# Altium footprint library l0603_0.95mm.PcbLib: 1 footprints
Each footprint in its own frame and in the unit in brackets; x right, y up, seen from the top. Pads: shape width x height; smd on the part's side, far side on the other; paste and mask are expansions set on the pad; w line width, h text height; cw(c..) or ccw(c..) is an arc to the next point about the centre after c.
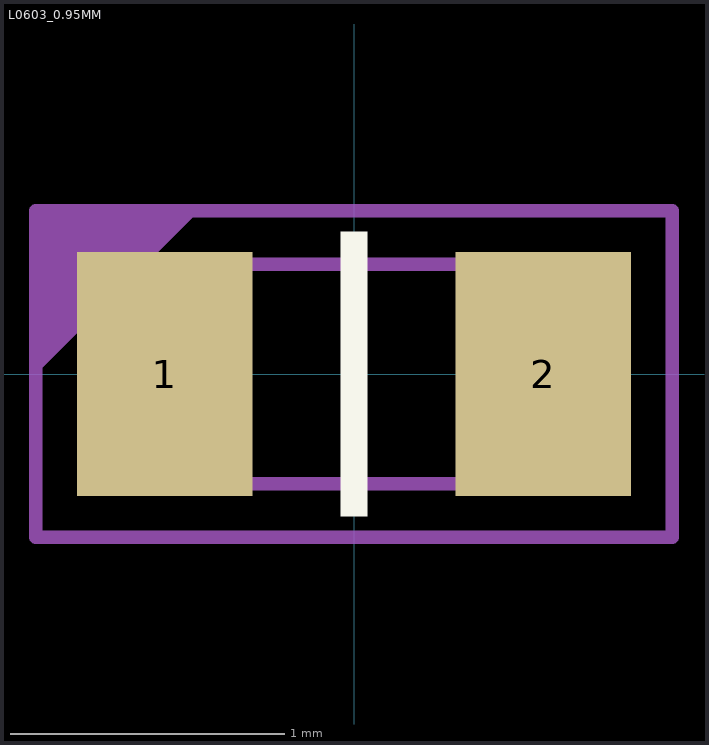
[diagram p0: the footprint, top view; thin cyan lines are the x and y axes]

## L0603_0.95MM [mm]
pads (2):
  rect 0.64x0.89 smd: 1(-0.69,0) 2(0.69,0)
Top Overlay:
  rectangle: -0.05,-0.52 0.05,0.52
Top 3D Body:
  lines w0.05: -0.8,-0.4 -0.8,0.4 0.8,0.4 0.8,-0.4 -0.8,-0.4
Top Courtyard:
  region: -1.16,0.595 -0.565,0.595 -1.16,0
  lines w0.05: -1.16,-0.595 -1.16,0.595 1.16,0.595 1.16,-0.595 -1.16,-0.595
Top Designator:
  text ".Designator" at -0.928,-0.256 h0.51
3D body: height 0.95, standoff 0, extent -0.8,-0.4 -0.6,0.4
3D body: height 0.95, standoff 0, extent 0.6,-0.4 0.8,0.4
3D body: height 0.95, standoff 0, extent -0.6,-0.4 0.6,0.4